# Altium footprint library WE WR-MJ 615008142621.PcbLib: 1 footprints
Each footprint in its own frame and in the unit in brackets; x right, y up, seen from the top. Pads: shape width x height; smd on the part's side, far side on the other; paste and mask are expansions set on the pad; w line width, h text height; cw(c..) or ccw(c..) is an arc to the next point about the centre after c.
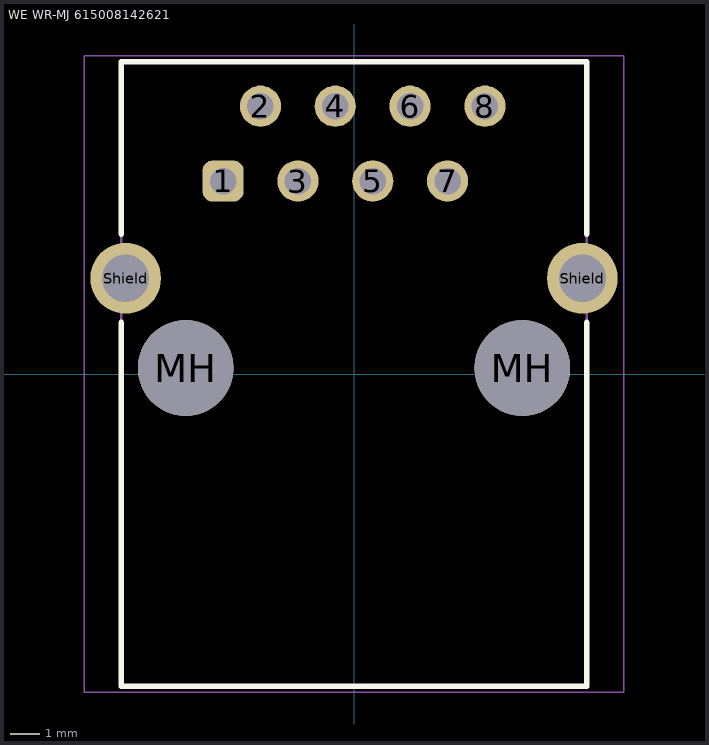
[diagram p0: the footprint, top view; thin cyan lines are the x and y axes]

## WE WR-MJ 615008142621 [mm] "Modular Jack Horizontal Shielded Rear Grounding Post 8P8C Tab Down"
height 13.3
pads (12):
  rrect50% 1.4x1.4 hole 0.9: 1(-4.445,6.55)
  round 1.4 hole 0.9: 2(-3.175,9.09) 3(-1.905,6.55) 4(-0.635,9.09) 5(0.635,6.55) 6(1.905,9.09) 7(3.175,6.55) 8(4.445,9.09)
  round 3.25 hole 3.25 unplated: MH(-5.715,0.2) MH(5.715,0.2)
  round 2.4 hole 1.6: Shield(-7.75,3.25) Shield(7.75,3.25)
Top Overlay:
  lines w0.2: -7.9,1.75 -7.9,-10.6 7.9,-10.6 7.9,1.75 ; -7.9,4.75 -7.9,10.6 7.9,10.6 7.9,4.75
Top Assembly:
  lines w0.1: -7.9,-10.6 -7.9,10.6 7.9,10.6 7.9,-10.6 -7.9,-10.6
Top Courtyard:
  lines w0.05: -9.15,-10.8 9.15,-10.8 9.15,10.8 -9.15,10.8 -9.15,-10.8
Top Designator:
  text ".Designator" at -7.498,-0.5 h1.5
3D body "615008142621 (rev1).stp": height 13.7, standoff -3.64, extent -7.94,-10.6 7.94,10.6